# Altium integrated library TI Amplifiers and Linear Operational Amplifier Precision Amplifier Part Two.IntLib: 2300 symbols (part 6 of 81)
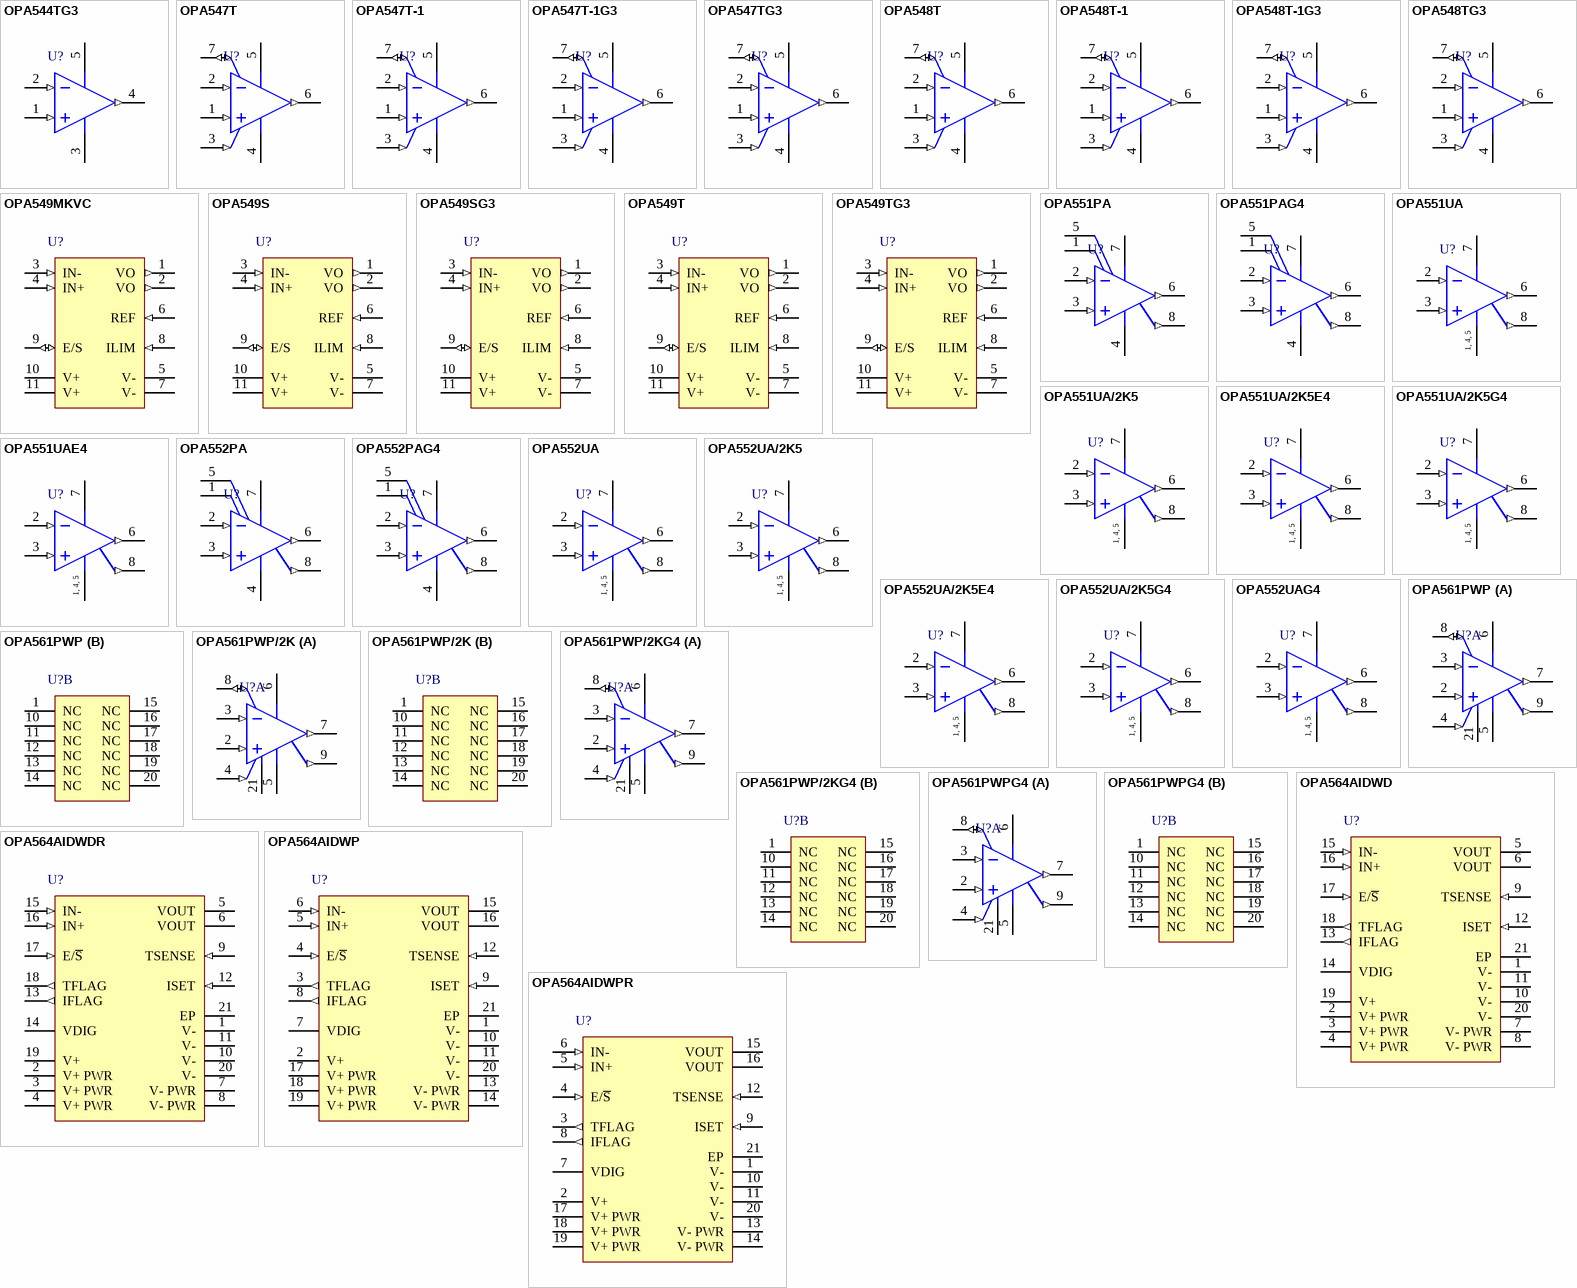
[diagram p141: symbols OPA544TG3 to OPA564AIDWPR]

## OPA552UA
designator U?
High-Voltage, High-Current Operational Amplifier, 8 to 60 V, -55 to 125 degC, 8-pin SOIC (D8), Green (RoHS & no Sb/Br); Manufacturer: Texas Instruments; PartNumber: OPA552UA; CMRR(Min)(dB): 92; GBW(Typ)(MHz): 12; IIB(Max)(pA): 100; Iq per channel(Max)(mA): 8.5; Number of Channels: 1; Offset Drift(Typ)(uV/C): 7; Packing: TUBE; Rating: Catalog; Slew Rate(Typ)(V/us): 24; Sub Family: High Output Current Amplifier (>=50mA), High Supply Voltage Amplifier (>=30V), Precision Amplifier; Total Supply Voltage(Max)(+5V is 5, +/-5V is 10): 60; Total Supply Voltage(Min)(+5V is 5, +/-5V is 10): 8; Vio (25C)(Max)(mV): 3; DatasheetVersion: SBOS100A; PackageVersion: 4040047-3/M, 06/2011; PackageReference: D8; PackageDescription: 8-Pin Plastic Small Outline, Body 4.9 x 3.9 mm, Pitch 1.27 mm; Supplier 1: Digi-Key; Supplier Part Number 1: OPA552UA-ND; Supplier 2: Newark; Supplier Part Number 2: 75C5072; Supplier 3: Mouser; Supplier Part Number 3: 595-OPA552UA; Eco-Plan: Green (RoHS & no Sb/Br); Mounting Technology: Surface Mount; Code_JEDEC: MS-012; ComponentLink1Description: Manufacturer URL; ComponentLink1URL: http://www.ti.com/; ComponentLink2Description: Datasheet; ComponentLink2URL: http://www.ti.com/lit/ds/symlink/opa552.pdf; ComponentLink3Description: Package Specification; ComponentLink3URL: http://www.ti.com/litv/pdf/msoi002j
footprint TI-D8_N (SOIC, 8-Leads, Body 4.9x3.9mm, Pitch 1.27mm, IPC Medium Density)
footprint TI-D8_L (SOIC, 8-Leads, Body 4.9x3.9mm, Pitch 1.27mm, IPC High Density)
footprint TI-D8_M (SOIC, 8-Leads, Body 4.9x3.9mm, Pitch 1.27mm, IPC Low Density)
pins: 1 V- (power), 2 IN- (in), 3 IN+ (in), 4 V- (power), 5 V- (power), 6 OUT (out), 7 V+ (power), 8 FLAG (out)
text: 1, 4, 5

## OPA552UA/2K5
designator U?
High-Voltage, High-Current Operational Amplifier, 8 to 60 V, -55 to 125 degC, 8-pin SOIC (D8), Green (RoHS & no Sb/Br); Manufacturer: Texas Instruments; PartNumber: OPA552UA/2K5; CMRR(Min)(dB): 92; GBW(Typ)(MHz): 12; IIB(Max)(pA): 100; Iq per channel(Max)(mA): 8.5; Number of Channels: 1; Offset Drift(Typ)(uV/C): 7; Packing: LARGE T&R; Rating: Catalog; Slew Rate(Typ)(V/us): 24; Sub Family: High Output Current Amplifier (>=50mA), High Supply Voltage Amplifier (>=30V), Precision Amplifier; Total Supply Voltage(Max)(+5V is 5, +/-5V is 10): 60; Total Supply Voltage(Min)(+5V is 5, +/-5V is 10): 8; Vio (25C)(Max)(mV): 3; DatasheetVersion: SBOS100A; PackageVersion: 4040047-3/M, 06/2011; PackageReference: D8; PackageDescription: 8-Pin Plastic Small Outline, Body 4.9 x 3.9 mm, Pitch 1.27 mm; Supplier 1: Digi-Key; Supplier Part Number 1: OPA552UA/2K5-ND; Supplier 2: Mouser; Supplier Part Number 2: 595-OPA552UA/2K5; Eco-Plan: Green (RoHS & no Sb/Br); Mounting Technology: Surface Mount; Code_JEDEC: MS-012; ComponentLink1Description: Manufacturer URL; ComponentLink1URL: http://www.ti.com/; ComponentLink2Description: Datasheet; ComponentLink2URL: http://www.ti.com/lit/ds/symlink/opa552.pdf; ComponentLink3Description: Package Specification; ComponentLink3URL: http://www.ti.com/litv/pdf/msoi002j
footprint TI-D8_N (SOIC, 8-Leads, Body 4.9x3.9mm, Pitch 1.27mm, IPC Medium Density)
footprint TI-D8_L (SOIC, 8-Leads, Body 4.9x3.9mm, Pitch 1.27mm, IPC High Density)
footprint TI-D8_M (SOIC, 8-Leads, Body 4.9x3.9mm, Pitch 1.27mm, IPC Low Density)
pins: 1 V- (power), 2 IN- (in), 3 IN+ (in), 4 V- (power), 5 V- (power), 6 OUT (out), 7 V+ (power), 8 FLAG (out)
text: 1, 4, 5

## OPA552UA/2K5E4
designator U?
High-Voltage, High-Current Operational Amplifier, 8 to 60 V, -55 to 125 degC, 8-pin SOIC (D8), Green (RoHS & no Sb/Br); Manufacturer: Texas Instruments; PartNumber: OPA552UA/2K5E4; CMRR(Min)(dB): 92; GBW(Typ)(MHz): 12; IIB(Max)(pA): 100; Iq per channel(Max)(mA): 8.5; Number of Channels: 1; Offset Drift(Typ)(uV/C): 7; Packing: LARGE T&R; Rating: Catalog; Slew Rate(Typ)(V/us): 24; Sub Family: High Output Current Amplifier (>=50mA), High Supply Voltage Amplifier (>=30V), Precision Amplifier; Total Supply Voltage(Max)(+5V is 5, +/-5V is 10): 60; Total Supply Voltage(Min)(+5V is 5, +/-5V is 10): 8; Vio (25C)(Max)(mV): 3; DatasheetVersion: SBOS100A; PackageVersion: 4040047-3/M, 06/2011; PackageReference: D8; PackageDescription: 8-Pin Plastic Small Outline, Body 4.9 x 3.9 mm, Pitch 1.27 mm; Supplier 1: Digi-Key; Supplier Part Number 1: OPA552UA/2K5E4-ND; Supplier 2: Mouser; Supplier Part Number 2: 595-OPA552UA/2K5E4; Eco-Plan: Green (RoHS & no Sb/Br); Mounting Technology: Surface Mount; Code_JEDEC: MS-012; ComponentLink1Description: Manufacturer URL; ComponentLink1URL: http://www.ti.com/; ComponentLink2Description: Datasheet; ComponentLink2URL: http://www.ti.com/lit/ds/symlink/opa552.pdf; ComponentLink3Description: Package Specification; ComponentLink3URL: http://www.ti.com/litv/pdf/msoi002j
footprint TI-D8_N (SOIC, 8-Leads, Body 4.9x3.9mm, Pitch 1.27mm, IPC Medium Density)
footprint TI-D8_L (SOIC, 8-Leads, Body 4.9x3.9mm, Pitch 1.27mm, IPC High Density)
footprint TI-D8_M (SOIC, 8-Leads, Body 4.9x3.9mm, Pitch 1.27mm, IPC Low Density)
pins: 1 V- (power), 2 IN- (in), 3 IN+ (in), 4 V- (power), 5 V- (power), 6 OUT (out), 7 V+ (power), 8 FLAG (out)
text: 1, 4, 5

## OPA552UA/2K5G4
designator U?
High-Voltage, High-Current Operational Amplifier, 8 to 60 V, -55 to 125 degC, 8-pin SOIC (D8), Green (RoHS & no Sb/Br); Manufacturer: Texas Instruments; PartNumber: OPA552UA/2K5G4; CMRR(Min)(dB): 92; GBW(Typ)(MHz): 12; IIB(Max)(pA): 100; Iq per channel(Max)(mA): 8.5; Number of Channels: 1; Offset Drift(Typ)(uV/C): 7; Packing: LARGE T&R; Rating: Catalog; Slew Rate(Typ)(V/us): 24; Sub Family: High Output Current Amplifier (>=50mA), High Supply Voltage Amplifier (>=30V), Precision Amplifier; Total Supply Voltage(Max)(+5V is 5, +/-5V is 10): 60; Total Supply Voltage(Min)(+5V is 5, +/-5V is 10): 8; Vio (25C)(Max)(mV): 3; DatasheetVersion: SBOS100A; PackageVersion: 4040047-3/M, 06/2011; PackageReference: D8; PackageDescription: 8-Pin Plastic Small Outline, Body 4.9 x 3.9 mm, Pitch 1.27 mm; Supplier 1: Digi-Key; Supplier Part Number 1: OPA552UA/2K5G4-ND; Supplier 2: Mouser; Supplier Part Number 2: 595-OPA552UA/2K5G4; Eco-Plan: Green (RoHS & no Sb/Br); Mounting Technology: Surface Mount; Code_JEDEC: MS-012; ComponentLink1Description: Manufacturer URL; ComponentLink1URL: http://www.ti.com/; ComponentLink2Description: Datasheet; ComponentLink2URL: http://www.ti.com/lit/ds/symlink/opa552.pdf; ComponentLink3Description: Package Specification; ComponentLink3URL: http://www.ti.com/litv/pdf/msoi002j
footprint TI-D8_N (SOIC, 8-Leads, Body 4.9x3.9mm, Pitch 1.27mm, IPC Medium Density)
footprint TI-D8_L (SOIC, 8-Leads, Body 4.9x3.9mm, Pitch 1.27mm, IPC High Density)
footprint TI-D8_M (SOIC, 8-Leads, Body 4.9x3.9mm, Pitch 1.27mm, IPC Low Density)
pins: 1 V- (power), 2 IN- (in), 3 IN+ (in), 4 V- (power), 5 V- (power), 6 OUT (out), 7 V+ (power), 8 FLAG (out)
text: 1, 4, 5

## OPA552UAG4
designator U?
High-Voltage, High-Current Operational Amplifier, 8 to 60 V, -55 to 125 degC, 8-pin SOIC (D8), Green (RoHS & no Sb/Br); Manufacturer: Texas Instruments; PartNumber: OPA552UAG4; CMRR(Min)(dB): 92; GBW(Typ)(MHz): 12; IIB(Max)(pA): 100; Iq per channel(Max)(mA): 8.5; Number of Channels: 1; Offset Drift(Typ)(uV/C): 7; Packing: TUBE; Rating: Catalog; Slew Rate(Typ)(V/us): 24; Sub Family: High Output Current Amplifier (>=50mA), High Supply Voltage Amplifier (>=30V), Precision Amplifier; Total Supply Voltage(Max)(+5V is 5, +/-5V is 10): 60; Total Supply Voltage(Min)(+5V is 5, +/-5V is 10): 8; Vio (25C)(Max)(mV): 3; DatasheetVersion: SBOS100A; PackageVersion: 4040047-3/M, 06/2011; PackageReference: D8; PackageDescription: 8-Pin Plastic Small Outline, Body 4.9 x 3.9 mm, Pitch 1.27 mm; Supplier 1: Digi-Key; Supplier Part Number 1: OPA552UAG4-ND; Supplier 2: Mouser; Supplier Part Number 2: 595-OPA552UAG4; Eco-Plan: Green (RoHS & no Sb/Br); Mounting Technology: Surface Mount; Code_JEDEC: MS-012; ComponentLink1Description: Manufacturer URL; ComponentLink1URL: http://www.ti.com/; ComponentLink2Description: Datasheet; ComponentLink2URL: http://www.ti.com/lit/ds/symlink/opa552.pdf; ComponentLink3Description: Package Specification; ComponentLink3URL: http://www.ti.com/litv/pdf/msoi002j
footprint TI-D8_N (SOIC, 8-Leads, Body 4.9x3.9mm, Pitch 1.27mm, IPC Medium Density)
footprint TI-D8_L (SOIC, 8-Leads, Body 4.9x3.9mm, Pitch 1.27mm, IPC High Density)
footprint TI-D8_M (SOIC, 8-Leads, Body 4.9x3.9mm, Pitch 1.27mm, IPC Low Density)
pins: 1 V- (power), 2 IN- (in), 3 IN+ (in), 4 V- (power), 5 V- (power), 6 OUT (out), 7 V+ (power), 8 FLAG (out)
text: 1, 4, 5

## OPA561PWP
designator U?
High Current Operational Amplifier, 7 to 16 V, -40 to 125 degC, 20-pin SOP (PWP20), Green (RoHS & no Sb/Br); Manufacturer: Texas Instruments; PartNumber: OPA561PWP; CMRR(Min)(dB): 70; GBW(Typ)(MHz): 17; IIB(Max)(pA): 100; Iq per channel(Max)(mA): 60; Number of Channels: 1; Offset Drift(Typ)(uV/C): 50; Packing: TUBE; Rating: Catalog; Sub Family: High Output Current Amplifier (>=50mA), Precision Amplifier; Total Supply Voltage(Max)(+5V is 5, +/-5V is 10): 16; Total Supply Voltage(Min)(+5V is 5, +/-5V is 10): 7; Vio (25C)(Max)(mV): 20; DatasheetVersion: SBOS206E; PackageVersion: 4073225-4/I, 05/2011; PackageReference: PWP20-3005X2005TP; PackageDescription: 20-Pin Plastic Small Outline, Body 4.4 x 6.5 mm, Pitch 0.65 mm; Supplier 1: Digi-Key; Supplier Part Number 1: OPA561PWP-ND; Supplier 2: Newark; Supplier Part Number 2: 75C5074; Supplier 3: Mouser; Supplier Part Number 3: 595-OPA561PWP; Eco-Plan: Green (RoHS & no Sb/Br); Slew Rate(Typ)(V/us): 50; Mounting Technology: Surface Mount; Code_JEDEC: MO-153; ComponentLink1Description: Manufacturer URL; ComponentLink1URL: http://www.ti.com/; ComponentLink2Description: Datasheet; ComponentLink2URL: http://www.ti.com/lit/ds/symlink/opa561.pdf; ComponentLink3Description: Package Specification; ComponentLink3URL: http://www.ti.com/lit/ml/mhts001g/mhts001g.pdf
footprint TI-PWP20-3005X2005TP_N (SOP, 20-Leads, Body 6.5x4.4mm, Pitch 0.65mm, Thermal Pad 3.4x2.4mm, IPC Medium Density)
footprint TI-PWP20-3005X2005TP_L (SOP, 20-Leads, Body 6.5x4.4mm, Pitch 0.65mm, Thermal Pad 3.4x2.4mm, IPC High Density)
footprint TI-PWP20-3005X2005TP_M (SOP, 20-Leads, Body 6.5x4.4mm, Pitch 0.65mm, Thermal Pad 3.4x2.4mm, IPC Low Density)
part A pins: 2 IN+ (in), 3 IN- (in), 4 ILIM (in), 5 V- (power), 6 V+ (power), 7 OUT (out), 8 E/S (io), 9 CLS (out), 21 EP (power)
part B pins: 1 NC, 10 NC, 11 NC, 12 NC, 13 NC, 14 NC, 15 NC, 16 NC, 17 NC, 18 NC, 19 NC, 20 NC

## OPA561PWP/2K
designator U?
High Current Operational Amplifier, 7 to 16 V, -40 to 125 degC, 20-pin SOP (PWP20), Green (RoHS & no Sb/Br); Manufacturer: Texas Instruments; PartNumber: OPA561PWP/2K; CMRR(Min)(dB): 70; GBW(Typ)(MHz): 17; IIB(Max)(pA): 100; Iq per channel(Max)(mA): 60; Number of Channels: 1; Offset Drift(Typ)(uV/C): 50; Packing: LARGE T&R; Rating: Catalog; Sub Family: High Output Current Amplifier (>=50mA), Precision Amplifier; Total Supply Voltage(Max)(+5V is 5, +/-5V is 10): 16; Total Supply Voltage(Min)(+5V is 5, +/-5V is 10): 7; Vio (25C)(Max)(mV): 20; DatasheetVersion: SBOS206E; PackageVersion: 4073225-4/I, 05/2011; PackageReference: PWP20-3005X2005TP; PackageDescription: 20-Pin Plastic Small Outline, Body 4.4 x 6.5 mm, Pitch 0.65 mm; Supplier 1: Digi-Key; Supplier Part Number 1: OPA561PWP/2K-ND; Supplier 2: Newark; Supplier Part Number 2: 75C5075; Supplier 3: Mouser; Supplier Part Number 3: 595-OPA561PWP/2K; Eco-Plan: Green (RoHS & no Sb/Br); Slew Rate(Typ)(V/us): 50; Mounting Technology: Surface Mount; Code_JEDEC: MO-153; ComponentLink1Description: Manufacturer URL; ComponentLink1URL: http://www.ti.com/; ComponentLink2Description: Datasheet; ComponentLink2URL: http://www.ti.com/lit/ds/symlink/opa561.pdf; ComponentLink3Description: Package Specification; ComponentLink3URL: http://www.ti.com/lit/ml/mhts001g/mhts001g.pdf
footprint TI-PWP20-3005X2005TP_N (SOP, 20-Leads, Body 6.5x4.4mm, Pitch 0.65mm, Thermal Pad 3.4x2.4mm, IPC Medium Density)
footprint TI-PWP20-3005X2005TP_L (SOP, 20-Leads, Body 6.5x4.4mm, Pitch 0.65mm, Thermal Pad 3.4x2.4mm, IPC High Density)
footprint TI-PWP20-3005X2005TP_M (SOP, 20-Leads, Body 6.5x4.4mm, Pitch 0.65mm, Thermal Pad 3.4x2.4mm, IPC Low Density)
part A pins: 2 IN+ (in), 3 IN- (in), 4 ILIM (in), 5 V- (power), 6 V+ (power), 7 OUT (out), 8 E/S (io), 9 CLS (out), 21 EP (power)
part B pins: 1 NC, 10 NC, 11 NC, 12 NC, 13 NC, 14 NC, 15 NC, 16 NC, 17 NC, 18 NC, 19 NC, 20 NC

## OPA561PWP/2KG4
designator U?
High Current Operational Amplifier, 7 to 16 V, -40 to 125 degC, 20-pin SOP (PWP20), Green (RoHS & no Sb/Br); Manufacturer: Texas Instruments; PartNumber: OPA561PWP/2KG4; CMRR(Min)(dB): 70; GBW(Typ)(MHz): 17; IIB(Max)(pA): 100; Iq per channel(Max)(mA): 60; Number of Channels: 1; Offset Drift(Typ)(uV/C): 50; Packing: LARGE T&R; Rating: Catalog; Sub Family: High Output Current Amplifier (>=50mA), Precision Amplifier; Total Supply Voltage(Max)(+5V is 5, +/-5V is 10): 16; Total Supply Voltage(Min)(+5V is 5, +/-5V is 10): 7; Vio (25C)(Max)(mV): 20; DatasheetVersion: SBOS206E; PackageVersion: 4073225-4/I, 05/2011; PackageReference: PWP20-3005X2005TP; PackageDescription: 20-Pin Plastic Small Outline, Body 4.4 x 6.5 mm, Pitch 0.65 mm; Supplier 1: Digi-Key; Supplier Part Number 1: OPA561PWP/2KG4-ND; Supplier 2: Mouser; Supplier Part Number 2: 595-OPA561PWP/2KG4; Eco-Plan: Green (RoHS & no Sb/Br); Slew Rate(Typ)(V/us): 50; Mounting Technology: Surface Mount; Code_JEDEC: MO-153; ComponentLink1Description: Manufacturer URL; ComponentLink1URL: http://www.ti.com/; ComponentLink2Description: Datasheet; ComponentLink2URL: http://www.ti.com/lit/ds/symlink/opa561.pdf; ComponentLink3Description: Package Specification; ComponentLink3URL: http://www.ti.com/lit/ml/mhts001g/mhts001g.pdf
footprint TI-PWP20-3005X2005TP_N (SOP, 20-Leads, Body 6.5x4.4mm, Pitch 0.65mm, Thermal Pad 3.4x2.4mm, IPC Medium Density)
footprint TI-PWP20-3005X2005TP_L (SOP, 20-Leads, Body 6.5x4.4mm, Pitch 0.65mm, Thermal Pad 3.4x2.4mm, IPC High Density)
footprint TI-PWP20-3005X2005TP_M (SOP, 20-Leads, Body 6.5x4.4mm, Pitch 0.65mm, Thermal Pad 3.4x2.4mm, IPC Low Density)
part A pins: 2 IN+ (in), 3 IN- (in), 4 ILIM (in), 5 V- (power), 6 V+ (power), 7 OUT (out), 8 E/S (io), 9 CLS (out), 21 EP (power)
part B pins: 1 NC, 10 NC, 11 NC, 12 NC, 13 NC, 14 NC, 15 NC, 16 NC, 17 NC, 18 NC, 19 NC, 20 NC

## OPA561PWPG4
designator U?
High Current Operational Amplifier, 7 to 16 V, -40 to 125 degC, 20-pin SOP (PWP20), Green (RoHS & no Sb/Br); Manufacturer: Texas Instruments; PartNumber: OPA561PWPG4; CMRR(Min)(dB): 70; GBW(Typ)(MHz): 17; IIB(Max)(pA): 100; Iq per channel(Max)(mA): 60; Number of Channels: 1; Offset Drift(Typ)(uV/C): 50; Packing: TUBE; Rating: Catalog; Sub Family: High Output Current Amplifier (>=50mA), Precision Amplifier; Total Supply Voltage(Max)(+5V is 5, +/-5V is 10): 16; Total Supply Voltage(Min)(+5V is 5, +/-5V is 10): 7; Vio (25C)(Max)(mV): 20; DatasheetVersion: SBOS206E; PackageVersion: 4073225-4/I, 05/2011; PackageReference: PWP20-3005X2005TP; PackageDescription: 20-Pin Plastic Small Outline, Body 4.4 x 6.5 mm, Pitch 0.65 mm; Supplier 1: Digi-Key; Supplier Part Number 1: OPA561PWPG4-ND; Supplier 2: Farnell; Supplier Part Number 2: 1234906; Supplier 3: Newark; Supplier Part Number 3: 13M2593; Supplier 4: Mouser; Supplier Part Number 4: 595-OPA561PWPG4; Eco-Plan: Green (RoHS & no Sb/Br); Slew Rate(Typ)(V/us): 50; Mounting Technology: Surface Mount; Code_JEDEC: MO-153; ComponentLink1Description: Manufacturer URL; ComponentLink1URL: http://www.ti.com/; ComponentLink2Description: Datasheet; ComponentLink2URL: http://www.ti.com/lit/ds/symlink/opa561.pdf; ComponentLink3Description: Package Specification; ComponentLink3URL: http://www.ti.com/lit/ml/mhts001g/mhts001g.pdf
footprint TI-PWP20-3005X2005TP_N (SOP, 20-Leads, Body 6.5x4.4mm, Pitch 0.65mm, Thermal Pad 3.4x2.4mm, IPC Medium Density)
footprint TI-PWP20-3005X2005TP_L (SOP, 20-Leads, Body 6.5x4.4mm, Pitch 0.65mm, Thermal Pad 3.4x2.4mm, IPC High Density)
footprint TI-PWP20-3005X2005TP_M (SOP, 20-Leads, Body 6.5x4.4mm, Pitch 0.65mm, Thermal Pad 3.4x2.4mm, IPC Low Density)
part A pins: 2 IN+ (in), 3 IN- (in), 4 ILIM (in), 5 V- (power), 6 V+ (power), 7 OUT (out), 8 E/S (io), 9 CLS (out), 21 EP (power)
part B pins: 1 NC, 10 NC, 11 NC, 12 NC, 13 NC, 14 NC, 15 NC, 16 NC, 17 NC, 18 NC, 19 NC, 20 NC

## OPA564AIDWD
designator U?
1.5 A, 17 MHz, Power Operational Amplifier, 7 to 24 V, -40 to 125 degC, 20-pin SOP (DWD20), Green (RoHS & no Sb/Br); Manufacturer: Texas Instruments; PartNumber: OPA564AIDWD; CMRR(Min)(dB): 70; GBW(Typ)(MHz): 17; IIB(Max)(pA): 100; Iq per channel(Max)(mA): 50; Number of Channels: 1; Offset Drift(Typ)(uV/C): 10; Packing: TUBE; Rating: Catalog; Slew Rate(Typ)(V/us): 40; Sub Family: High Output Current Amplifier (>=50mA), Precision Amplifier; Total Supply Voltage(Max)(+5V is 5, +/-5V is 10): 24; Total Supply Voltage(Min)(+5V is 5, +/-5V is 10): 7; Vio (25C)(Max)(mV): 20; DatasheetVersion: SBOS372E; PackageVersion: 4147576/D, 01/2009; PackageReference: DWD20; PackageDescription: 20-Pin PowerPAD(TM) Plastic Small-Outline ( DIE DOWN ), Body 12.825 x 7.52 mm, Pitch 1.27 mm; Supplier 1: Digi-Key; Supplier Part Number 1: OPA564AIDWD-ND; Supplier 2: Newark; Supplier Part Number 2: 55R4573; Supplier 3: Mouser; Supplier Part Number 3: 595-OPA564AIDWD; Eco-Plan: Green (RoHS & no Sb/Br); Mounting Technology: Surface Mount; ComponentLink1Description: Manufacturer URL; ComponentLink1URL: http://www.ti.com/; ComponentLink2Description: Datasheet; ComponentLink2URL: http://www.ti.com/lit/ds/symlink/opa564.pdf; ComponentLink3Description: Package Specification; ComponentLink3URL: http://www.ti.com/litv/pdf/mpds034c
footprint TI-DWD20-3770X3100TP_N (SOP, 20-Leads, Body 12.825x7.52mm, Pitch 1.27mm, Thermal Pad 4.62x3.56mm, IPC Medium Density)
footprint TI-DWD20-3770X3100TP_L (SOP, 20-Leads, Body 12.825x7.52mm, Pitch 1.27mm, Thermal Pad 4.62x3.56mm, IPC High Density)
footprint TI-DWD20-3770X3100TP_M (SOP, 20-Leads, Body 12.825x7.52mm, Pitch 1.27mm, Thermal Pad 4.62x3.56mm, IPC Low Density)
pins: 1 V- (power) "-Supply for Amplifier, PWR Out, and Metal PowerPAD", 2 V+ PWR (power) "+Supply for Power Output Stage", 3 V+ PWR (power) "+Supply for Power Output Stage", 4 V+ PWR (power) "+Supply for Power Output Stage", 5 VOUT (hiz) "Output Voltage; RO is high impedance when shut down", 6 VOUT (hiz) "Output Voltage; RO is high impedance when shut down", 7 V- PWR (power) "-Supply for Power Output Stage", 8 V- PWR (power) "-Supply for Power Output Stage", 9 TSENSE (in) "Temperature Sense Pin for use with TMP411", 10 V- (power) "-Supply for Amplifier, PWR Out, and Metal PowerPAD", 11 V- (power) "-Supply for Amplifier, PWR Out, and Metal PowerPAD", 12 ISET (in) "Current Limit Set", 13 IFLAG (out) "Current Limit Flag; Active High", 14 VDIG (power) "+Supply for Digital Flag and E/S\ (referenced to V-). Valid Range is (V-) + 3.0V =< VDIG =< (V-) + 5.5V.", 15 IN- (in) "Inverting Op Amp Input", 16 IN+ (in) "Noninverting Op Amp Input", 17 E/~{S} (in) "Enable/S\h\u\t\d\o\w\n\ Output Stage; take E/S\ low to shut down output", 18 TFLAG (out) "Thermal Over Temperature Flag; flag is high when alarmed and device has gone into thermal shutdown.", 19 V+ (power) "+Supply for Signal Amplifier", 20 V- (power) "-Supply for Amplifier, PWR Out, and Metal PowerPAD", 21 EP (power) "PowerPAD is internally connected to V-."

## OPA564AIDWDR
designator U?
1.5 A, 17 MHz, Power Operational Amplifier, 7 to 24 V, -40 to 125 degC, 20-pin SOP (DWD20), Green (RoHS & no Sb/Br); Manufacturer: Texas Instruments; PartNumber: OPA564AIDWDR; CMRR(Min)(dB): 70; GBW(Typ)(MHz): 17; IIB(Max)(pA): 100; Iq per channel(Max)(mA): 50; Number of Channels: 1; Offset Drift(Typ)(uV/C): 10; Packing: LARGE T&R; Rating: Catalog; Slew Rate(Typ)(V/us): 40; Sub Family: High Output Current Amplifier (>=50mA), Precision Amplifier; Total Supply Voltage(Max)(+5V is 5, +/-5V is 10): 24; Total Supply Voltage(Min)(+5V is 5, +/-5V is 10): 7; Vio (25C)(Max)(mV): 20; DatasheetVersion: SBOS372E; PackageVersion: 4147576/D, 01/2009; PackageReference: DWD20; PackageDescription: 20-Pin PowerPAD(TM) Plastic Small-Outline ( DIE DOWN ), Body 12.825 x 7.52 mm, Pitch 1.27 mm; Supplier 1: Digi-Key; Supplier Part Number 1: 296-25453-2-ND; Supplier 2: Digi-Key; Supplier Part Number 2: 296-25453-1-ND; Supplier 3: Digi-Key; Supplier Part Number 3: 296-25453-6-ND; Supplier 4: Newark; Supplier Part Number 4: 55R4574; Supplier 5: Mouser; Supplier Part Number 5: 595-OPA564AIDWDR; Eco-Plan: Green (RoHS & no Sb/Br); Mounting Technology: Surface Mount; ComponentLink1Description: Manufacturer URL; ComponentLink1URL: http://www.ti.com/; ComponentLink2Description: Datasheet; ComponentLink2URL: http://www.ti.com/lit/ds/symlink/opa564.pdf; ComponentLink3Description: Package Specification; ComponentLink3URL: http://www.ti.com/litv/pdf/mpds034c
footprint TI-DWD20-3770X3100TP_N (SOP, 20-Leads, Body 12.825x7.52mm, Pitch 1.27mm, Thermal Pad 4.62x3.56mm, IPC Medium Density)
footprint TI-DWD20-3770X3100TP_L (SOP, 20-Leads, Body 12.825x7.52mm, Pitch 1.27mm, Thermal Pad 4.62x3.56mm, IPC High Density)
footprint TI-DWD20-3770X3100TP_M (SOP, 20-Leads, Body 12.825x7.52mm, Pitch 1.27mm, Thermal Pad 4.62x3.56mm, IPC Low Density)
pins: 1 V- (power) "-Supply for Amplifier, PWR Out, and Metal PowerPAD", 2 V+ PWR (power) "+Supply for Power Output Stage", 3 V+ PWR (power) "+Supply for Power Output Stage", 4 V+ PWR (power) "+Supply for Power Output Stage", 5 VOUT (hiz) "Output Voltage; RO is high impedance when shut down", 6 VOUT (hiz) "Output Voltage; RO is high impedance when shut down", 7 V- PWR (power) "-Supply for Power Output Stage", 8 V- PWR (power) "-Supply for Power Output Stage", 9 TSENSE (in) "Temperature Sense Pin for use with TMP411", 10 V- (power) "-Supply for Amplifier, PWR Out, and Metal PowerPAD", 11 V- (power) "-Supply for Amplifier, PWR Out, and Metal PowerPAD", 12 ISET (in) "Current Limit Set", 13 IFLAG (out) "Current Limit Flag; Active High", 14 VDIG (power) "+Supply for Digital Flag and E/S\ (referenced to V-). Valid Range is (V-) + 3.0V =< VDIG =< (V-) + 5.5V.", 15 IN- (in) "Inverting Op Amp Input", 16 IN+ (in) "Noninverting Op Amp Input", 17 E/~{S} (in) "Enable/S\h\u\t\d\o\w\n\ Output Stage; take E/S\ low to shut down output", 18 TFLAG (out) "Thermal Over Temperature Flag; flag is high when alarmed and device has gone into thermal shutdown.", 19 V+ (power) "+Supply for Signal Amplifier", 20 V- (power) "-Supply for Amplifier, PWR Out, and Metal PowerPAD", 21 EP (power) "PowerPAD is internally connected to V-."

## OPA564AIDWP
designator U?
1.5 A, 17 MHz, Power Operational Amplifier, 7 to 24 V, -40 to 125 degC, 20-pin SOP (DWP20), Green (RoHS & no Sb/Br); Manufacturer: Texas Instruments; PartNumber: OPA564AIDWP; CMRR(Min)(dB): 70; GBW(Typ)(MHz): 17; IIB(Max)(pA): 100; Iq per channel(Max)(mA): 50; Number of Channels: 1; Offset Drift(Typ)(uV/C): 10; Packing: TUBE; Rating: Catalog; Slew Rate(Typ)(V/us): 40; Sub Family: High Output Current Amplifier (>=50mA), Precision Amplifier; Total Supply Voltage(Max)(+5V is 5, +/-5V is 10): 24; Total Supply Voltage(Min)(+5V is 5, +/-5V is 10): 7; Vio (25C)(Max)(mV): 20; DatasheetVersion: SBOS372E; PackageVersion: 4147575/C, 02/2005; PackageReference: DWP20-3905X3265TP; PackageDescription: 20-Pin PowerPAD(TM) Plastic Small-Outline Package, Body 12.825 x 7.52 mm, Pitch 1.27 mm; Supplier 1: Digi-Key; Supplier Part Number 1: 296-25592-5-ND; Supplier 2: Farnell; Supplier Part Number 2: 1815732; Supplier 3: Newark; Supplier Part Number 3: 23T1010; Supplier 4: Newark; Supplier Part Number 4: 55R4575; Supplier 5: Mouser; Supplier Part Number 5: 595-OPA564AIDWP; Eco-Plan: Green (RoHS & no Sb/Br); Mounting Technology: Surface Mount; ComponentLink1Description: Manufacturer URL; ComponentLink1URL: http://www.ti.com/; ComponentLink2Description: Datasheet; ComponentLink2URL: http://www.ti.com/lit/ds/symlink/opa564.pdf; ComponentLink3Description: Package Specification; ComponentLink3URL: http://www.ti.com/litv/pdf/mpds032b
footprint TI-DWP20-3905X3265TP_N (SOP, 20-Leads, Body 12.83x7.52mm, Pitch 1.27mm, Thermal Pad 4.32x3.81mm, IPC Medium Density)
footprint TI-DWP20-3905X3265TP_L (SOP, 20-Leads, Body 12.83x7.52mm, Pitch 1.27mm, Thermal Pad 4.32x3.81mm, IPC High Density)
footprint TI-DWP20-3905X3265TP_M (SOP, 20-Leads, Body 12.83x7.52mm, Pitch 1.27mm, Thermal Pad 4.32x3.81mm, IPC Low Density)
pins: 1 V- (power) "-Supply for Amplifier, PWR Out, and Metal PowerPAD", 2 V+ (power) "+Supply for Signal Amplifier", 3 TFLAG (out) "Thermal Over Temperature Flag; flag is high when alarmed and device has gone into thermal shutdown.", 4 E/~{S} (in) "Enable/S\h\u\t\d\o\w\n\ Output Stage; take E/S\ low to shut down output", 5 IN+ (in) "Noninverting Op Amp Input", 6 IN- (in) "Inverting Op Amp Input", 7 VDIG (power) "+Supply for Digital Flag and E/S\ (referenced to V-). Valid Range is (V-) + 3.0V = VDIG = (V-) + 5.5V.", 8 IFLAG (out) "Current Limit Flag; Active High", 9 ISET (in) "Current Limit Set", 10 V- (power) "-Supply for Amplifier, PWR Out, and Metal PowerPAD", 11 V- (power) "-Supply for Amplifier, PWR Out, and Metal PowerPAD", 12 TSENSE (in) "Temperature Sense Pin for use with TMP411", 13 V- PWR (power) "-Supply for Power Output Stage", 14 V- PWR (power) "-Supply for Power Output Stage", 15 VOUT (hiz) "Output Voltage; RO is high impedance when shut down", 16 VOUT (hiz) "Output Voltage; RO is high impedance when shut down", 17 V+ PWR (power) "+Supply for Power Output Stage", 18 V+ PWR (power) "+Supply for Power Output Stage", 19 V+ PWR (power) "+Supply for Power Output Stage", 20 V- (power) "-Supply for Amplifier, PWR Out, and Metal PowerPAD", 21 EP (power) "PowerPAD is internally connected to V-, Soldering the PowerPAD to the PCB is always required, even with applications that have low power dissipation."

## OPA564AIDWPR
designator U?
1.5 A, 17 MHz, Power Operational Amplifier, 7 to 24 V, -40 to 125 degC, 20-pin SOP (DWP20), Green (RoHS & no Sb/Br); Manufacturer: Texas Instruments; PartNumber: OPA564AIDWPR; CMRR(Min)(dB): 70; GBW(Typ)(MHz): 17; IIB(Max)(pA): 100; Iq per channel(Max)(mA): 50; Number of Channels: 1; Offset Drift(Typ)(uV/C): 10; Packing: LARGE T&R; Rating: Catalog; Slew Rate(Typ)(V/us): 40; Sub Family: High Output Current Amplifier (>=50mA), Precision Amplifier; Total Supply Voltage(Max)(+5V is 5, +/-5V is 10): 24; Total Supply Voltage(Min)(+5V is 5, +/-5V is 10): 7; Vio (25C)(Max)(mV): 20; DatasheetVersion: SBOS372E; PackageVersion: 4147575/C, 02/2005; PackageReference: DWP20-3905X3265TP; PackageDescription: 20-Pin PowerPAD(TM) Plastic Small-Outline Package, Body 12.825 x 7.52 mm, Pitch 1.27 mm; Supplier 1: Digi-Key; Supplier Part Number 1: 296-25454-2-ND; Supplier 2: Digi-Key; Supplier Part Number 2: 296-25454-1-ND; Supplier 3: Digi-Key; Supplier Part Number 3: 296-25454-6-ND; Supplier 4: Newark; Supplier Part Number 4: 55R4576; Supplier 5: Mouser; Supplier Part Number 5: 595-OPA564AIDWPR; Eco-Plan: Green (RoHS & no Sb/Br); Mounting Technology: Surface Mount; ComponentLink1Description: Manufacturer URL; ComponentLink1URL: http://www.ti.com/; ComponentLink2Description: Datasheet; ComponentLink2URL: http://www.ti.com/lit/ds/symlink/opa564.pdf; ComponentLink3Description: Package Specification; ComponentLink3URL: http://www.ti.com/litv/pdf/mpds032b
footprint TI-DWP20-3905X3265TP_N (SOP, 20-Leads, Body 12.83x7.52mm, Pitch 1.27mm, Thermal Pad 4.32x3.81mm, IPC Medium Density)
footprint TI-DWP20-3905X3265TP_L (SOP, 20-Leads, Body 12.83x7.52mm, Pitch 1.27mm, Thermal Pad 4.32x3.81mm, IPC High Density)
footprint TI-DWP20-3905X3265TP_M (SOP, 20-Leads, Body 12.83x7.52mm, Pitch 1.27mm, Thermal Pad 4.32x3.81mm, IPC Low Density)
pins: 1 V- (power) "-Supply for Amplifier, PWR Out, and Metal PowerPAD", 2 V+ (power) "+Supply for Signal Amplifier", 3 TFLAG (out) "Thermal Over Temperature Flag; flag is high when alarmed and device has gone into thermal shutdown.", 4 E/~{S} (in) "Enable/S\h\u\t\d\o\w\n\ Output Stage; take E/S\ low to shut down output", 5 IN+ (in) "Noninverting Op Amp Input", 6 IN- (in) "Inverting Op Amp Input", 7 VDIG (power) "+Supply for Digital Flag and E/S\ (referenced to V-). Valid Range is (V-) + 3.0V = VDIG = (V-) + 5.5V.", 8 IFLAG (out) "Current Limit Flag; Active High", 9 ISET (in) "Current Limit Set", 10 V- (power) "-Supply for Amplifier, PWR Out, and Metal PowerPAD", 11 V- (power) "-Supply for Amplifier, PWR Out, and Metal PowerPAD", 12 TSENSE (in) "Temperature Sense Pin for use with TMP411", 13 V- PWR (power) "-Supply for Power Output Stage", 14 V- PWR (power) "-Supply for Power Output Stage", 15 VOUT (hiz) "Output Voltage; RO is high impedance when shut down", 16 VOUT (hiz) "Output Voltage; RO is high impedance when shut down", 17 V+ PWR (power) "+Supply for Power Output Stage", 18 V+ PWR (power) "+Supply for Power Output Stage", 19 V+ PWR (power) "+Supply for Power Output Stage", 20 V- (power) "-Supply for Amplifier, PWR Out, and Metal PowerPAD", 21 EP (power) "PowerPAD is internally connected to V-, Soldering the PowerPAD to the PCB is always required, even with applications that have low power dissipation."

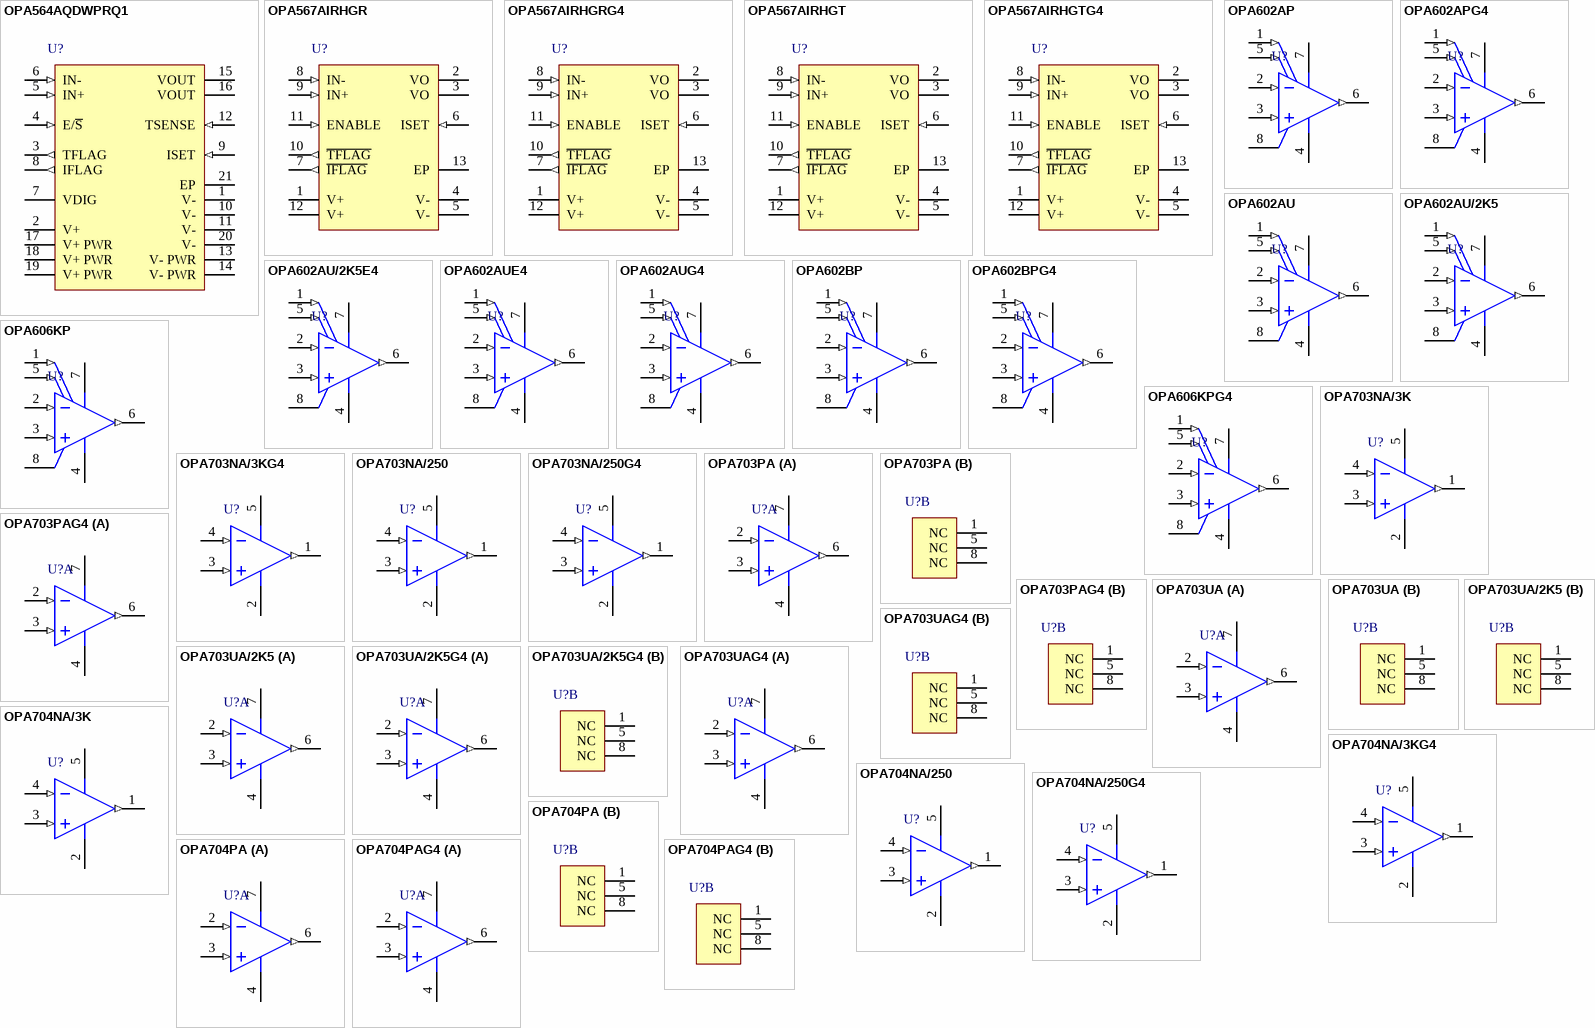
[diagram p9: symbols OPA564AQDWPRQ1 to OPA704PAG4]

## OPA564AQDWPRQ1
designator U?
Automotive Catalog 1.5 A, 17 MHz, Power Operational Amplifier, 7 to 24 V, -40 to 125 degC, 20-pin SOP (DWP20), Green (RoHS & no Sb/Br); Manufacturer: Texas Instruments; PartNumber: OPA564AQDWPRQ1; CMRR(Min)(dB): 70; GBW(Typ)(MHz): 17; IIB(Max)(pA): 100; Iq per channel(Max)(mA): 50; Number of Channels: 1; Offset Drift(Typ)(uV/C): 10; Packing: LARGE T&R; Slew Rate(Typ)(V/us): 40; Sub Family: High Output Current Amplifier (>=50mA), Precision Amplifier; Total Supply Voltage(Max)(+5V is 5, +/-5V is 10): 24; Total Supply Voltage(Min)(+5V is 5, +/-5V is 10): 7; Vio (25C)(Max)(mV): 20; DatasheetVersion: SBOS567; PackageVersion: 4147575/C, 02/2005; PackageReference: DWP20-3905X3265TP; PackageDescription: 20-Pin PowerPAD(TM) Plastic Small-Outline Package, Body 12.825 x 7.52 mm, Pitch 1.27 mm; Supplier 1: Digi-Key; Supplier Part Number 1: 296-29038-2-ND; Supplier 2: Digi-Key; Supplier Part Number 2: 296-29038-1-ND; Supplier 3: Digi-Key; Supplier Part Number 3: 296-29038-6-ND; Supplier 4: Mouser; Supplier Part Number 4: 595-OPA564AQDWPRQ1; Eco-Plan: Green (RoHS & no Sb/Br); Rating: Automotive; Mounting Technology: Surface Mount; ComponentLink1Description: Manufacturer URL; ComponentLink1URL: http://www.ti.com/; ComponentLink2Description: Datasheet; ComponentLink2URL: http://www.ti.com/lit/ds/symlink/opa564-q1.pdf; ComponentLink3Description: Package Specification; ComponentLink3URL: http://www.ti.com/litv/pdf/mpds032b
footprint TI-DWP20-3905X3265TP_N (SOP, 20-Leads, Body 12.83x7.52mm, Pitch 1.27mm, Thermal Pad 4.32x3.81mm, IPC Medium Density)
footprint TI-DWP20-3905X3265TP_L (SOP, 20-Leads, Body 12.83x7.52mm, Pitch 1.27mm, Thermal Pad 4.32x3.81mm, IPC High Density)
footprint TI-DWP20-3905X3265TP_M (SOP, 20-Leads, Body 12.83x7.52mm, Pitch 1.27mm, Thermal Pad 4.32x3.81mm, IPC Low Density)
pins: 1 V- (power) "-Supply for Amplifier, PWR Out, and Metal PowerPAD", 2 V+ (power) "+Supply for Signal Amplifier", 3 TFLAG (out) "Thermal Over Temperature Flag; flag is high when alarmed and device has gone into thermal shutdown.", 4 E/~{S} (in) "Enable/S\h\u\t\d\o\w\n\ Output Stage; take E/S\ low to shut down output", 5 IN+ (in) "Noninverting Op Amp Input", 6 IN- (in) "Inverting Op Amp Input", 7 VDIG (power) "+Supply for Digital Flag and E/S\ (referenced to V-). Valid Range is (V-) + 3.0V = VDIG = (V-) + 5.5V.", 8 IFLAG (out) "Current Limit Flag; Active High", 9 ISET (in) "Current Limit Set", 10 V- (power) "-Supply for Amplifier, PWR Out, and Metal PowerPAD", 11 V- (power) "-Supply for Amplifier, PWR Out, and Metal PowerPAD", 12 TSENSE (in) "Temperature Sense Pin for use with TMP411", 13 V- PWR (power) "-Supply for Power Output Stage", 14 V- PWR (power) "-Supply for Power Output Stage", 15 VOUT (hiz) "Output Voltage; RO is high impedance when shut down", 16 VOUT (hiz) "Output Voltage; RO is high impedance when shut down", 17 V+ PWR (power) "+Supply for Power Output Stage", 18 V+ PWR (power) "+Supply for Power Output Stage", 19 V+ PWR (power) "+Supply for Power Output Stage", 20 V- (power) "-Supply for Amplifier, PWR Out, and Metal PowerPAD", 21 EP (power) "PowerPAD is internally connected to V-, Soldering the PowerPAD to the PCB is always required, even with applications that have low power dissipation."

## OPA567AIRHGR
designator U?
Rail-to-Rail I/O, 2 A Power Amplifier, 2.7 to 5.5 V, -55 to 125 degC, 12-pin QFN (RHG12), Green (RoHS & no Sb/Br); Manufacturer: Texas Instruments; PartNumber: OPA567AIRHGR; CMRR(Min)(dB): 80; GBW(Typ)(MHz): 1.2; IIB(Max)(pA): 10; Iq per channel(Max)(mA): 6; Number of Channels: 1; Offset Drift(Typ)(uV/C): 1.3; Packing: LARGE T&R; Rating: Catalog; Sub Family: High Output Current Amplifier (>=50mA), Low Input Bias Current Amp (<=10pA), Low Supply Voltage Amplifier (<=2.7V), Precision Amplifier; Total Supply Voltage(Max)(+5V is 5, +/-5V is 10): 5.5; Total Supply Voltage(Min)(+5V is 5, +/-5V is 10): 2.7; Vio (25C)(Max)(mV): 2; DatasheetVersion: SBOS287A; PackageVersion: 4205052/E, 12/2010; PackageReference: RHG12-3120X3120TP; PackageDescription: 12-Pin Plastic Quad Flatpack No-Lead, Body 5 x 5 mm, Pitch 1 mm; Supplier 1: Digi-Key; Supplier Part Number 1: OPA567AIRHGR-ND; Supplier 2: Newark; Supplier Part Number 2: 63K6044; Supplier 3: Mouser; Supplier Part Number 3: 595-OPA567AIRHGR; Eco-Plan: Green (RoHS & no Sb/Br); Slew Rate(Typ)(V/us): 1.2; Mounting Technology: Surface Mount; Code_JEDEC: MO-220; ComponentLink1Description: Manufacturer URL; ComponentLink1URL: http://www.ti.com/; ComponentLink2Description: Datasheet; ComponentLink2URL: http://www.ti.com/lit/ds/symlink/opa567.pdf; ComponentLink3Description: Package Specification; ComponentLink3URL: http://www.ti.com/litv/pdf/mpqf142c
footprint TI-RHG12-3120X3120TP_V (QFN, 12-Leads, Body 5x5mm, Pitch 1mm, Thermal Pad 3.12 X 3.12mm)
pins: 1 V+ (power) "Positive Power-Supply Voltage", 2 VO (hiz) "Output", 3 VO (hiz) "Output", 4 V- (power) "Negative Power-Supply Voltage", 5 V- (power) "Negative Power-Supply Voltage", 6 ISET (in) "Current Limit Set Pin", 7 ~{IFLAG} (out) "Current Limit Flag-Indicates when part is in current limit (active LOW).", 8 IN- (in) "Inverting Input", 9 IN+ (in) "Noninverting Input", 10 ~{TFLAG} (out) "Thermal Flag-Indicates thermal stress (active LOW).", 11 ENABLE (in) "Enabled HIGH, shut down LOW.", 12 V+ (power) "Positive Power-Supply Voltage", 13 EP

## OPA567AIRHGRG4
designator U?
Rail-to-Rail I/O, 2 A Power Amplifier, 2.7 to 5.5 V, -55 to 125 degC, 12-pin QFN (RHG12), Green (RoHS & no Sb/Br); Manufacturer: Texas Instruments; PartNumber: OPA567AIRHGRG4; CMRR(Min)(dB): 80; GBW(Typ)(MHz): 1.2; IIB(Max)(pA): 10; Iq per channel(Max)(mA): 6; Number of Channels: 1; Offset Drift(Typ)(uV/C): 1.3; Packing: LARGE T&R; Rating: Catalog; Sub Family: High Output Current Amplifier (>=50mA), Low Input Bias Current Amp (<=10pA), Low Supply Voltage Amplifier (<=2.7V), Precision Amplifier; Total Supply Voltage(Max)(+5V is 5, +/-5V is 10): 5.5; Total Supply Voltage(Min)(+5V is 5, +/-5V is 10): 2.7; Vio (25C)(Max)(mV): 2; DatasheetVersion: SBOS287A; PackageVersion: 4205052/E, 12/2010; PackageReference: RHG12-3120X3120TP; PackageDescription: 12-Pin Plastic Quad Flatpack No-Lead, Body 5 x 5 mm, Pitch 1 mm; Supplier 1: Digi-Key; Supplier Part Number 1: OPA567AIRHGRG4-ND; Supplier 2: Newark; Supplier Part Number 2: 66K4014; Supplier 3: Mouser; Supplier Part Number 3: 595-OPA567AIRHGRG4; Eco-Plan: Green (RoHS & no Sb/Br); Slew Rate(Typ)(V/us): 1.2; Mounting Technology: Surface Mount; Code_JEDEC: MO-220; ComponentLink1Description: Manufacturer URL; ComponentLink1URL: http://www.ti.com/; ComponentLink2Description: Datasheet; ComponentLink2URL: http://www.ti.com/lit/ds/symlink/opa567.pdf; ComponentLink3Description: Package Specification; ComponentLink3URL: http://www.ti.com/litv/pdf/mpqf142c
footprint TI-RHG12-3120X3120TP_V (QFN, 12-Leads, Body 5x5mm, Pitch 1mm, Thermal Pad 3.12 X 3.12mm)
pins: 1 V+ (power) "Positive Power-Supply Voltage", 2 VO (hiz) "Output", 3 VO (hiz) "Output", 4 V- (power) "Negative Power-Supply Voltage", 5 V- (power) "Negative Power-Supply Voltage", 6 ISET (in) "Current Limit Set Pin", 7 ~{IFLAG} (out) "Current Limit Flag-Indicates when part is in current limit (active LOW).", 8 IN- (in) "Inverting Input", 9 IN+ (in) "Noninverting Input", 10 ~{TFLAG} (out) "Thermal Flag-Indicates thermal stress (active LOW).", 11 ENABLE (in) "Enabled HIGH, shut down LOW.", 12 V+ (power) "Positive Power-Supply Voltage", 13 EP

## OPA567AIRHGT
designator U?
Rail-to-Rail I/O, 2 A Power Amplifier, 2.7 to 5.5 V, -55 to 125 degC, 12-pin QFN (RHG12), Green (RoHS & no Sb/Br); Manufacturer: Texas Instruments; PartNumber: OPA567AIRHGT; CMRR(Min)(dB): 80; GBW(Typ)(MHz): 1.2; IIB(Max)(pA): 10; Iq per channel(Max)(mA): 6; Number of Channels: 1; Offset Drift(Typ)(uV/C): 1.3; Packing: SMALL T&R; Rating: Catalog; Sub Family: High Output Current Amplifier (>=50mA), Low Input Bias Current Amp (<=10pA), Low Supply Voltage Amplifier (<=2.7V), Precision Amplifier; Total Supply Voltage(Max)(+5V is 5, +/-5V is 10): 5.5; Total Supply Voltage(Min)(+5V is 5, +/-5V is 10): 2.7; Vio (25C)(Max)(mV): 2; DatasheetVersion: SBOS287A; PackageVersion: 4205052/E, 12/2010; PackageReference: RHG12-3120X3120TP; PackageDescription: 12-Pin Plastic Quad Flatpack No-Lead, Body 5 x 5 mm, Pitch 1 mm; Supplier 1: Digi-Key; Supplier Part Number 1: 296-18697-2-ND; Supplier 2: Digi-Key; Supplier Part Number 2: 296-18697-1-ND; Supplier 3: Digi-Key; Supplier Part Number 3: 296-18697-6-ND; Supplier 4: Farnell; Supplier Part Number 4: 1408243; Supplier 5: Farnell; Supplier Part Number 5: 1713526; Supplier 6: Newark; Supplier Part Number 6: 63K6045; Supplier 7: Mouser; Supplier Part Number 7: 595-OPA567AIRHGT; Eco-Plan: Green (RoHS & no Sb/Br); Slew Rate(Typ)(V/us): 1.2; Mounting Technology: Surface Mount; Code_JEDEC: MO-220; ComponentLink1Description: Manufacturer URL; ComponentLink1URL: http://www.ti.com/; ComponentLink2Description: Datasheet; ComponentLink2URL: http://www.ti.com/lit/ds/symlink/opa567.pdf; ComponentLink3Description: Package Specification; ComponentLink3URL: http://www.ti.com/litv/pdf/mpqf142c
footprint TI-RHG12-3120X3120TP_V (QFN, 12-Leads, Body 5x5mm, Pitch 1mm, Thermal Pad 3.12 X 3.12mm)
pins: 1 V+ (power) "Positive Power-Supply Voltage", 2 VO (hiz) "Output", 3 VO (hiz) "Output", 4 V- (power) "Negative Power-Supply Voltage", 5 V- (power) "Negative Power-Supply Voltage", 6 ISET (in) "Current Limit Set Pin", 7 ~{IFLAG} (out) "Current Limit Flag-Indicates when part is in current limit (active LOW).", 8 IN- (in) "Inverting Input", 9 IN+ (in) "Noninverting Input", 10 ~{TFLAG} (out) "Thermal Flag-Indicates thermal stress (active LOW).", 11 ENABLE (in) "Enabled HIGH, shut down LOW.", 12 V+ (power) "Positive Power-Supply Voltage", 13 EP

## OPA567AIRHGTG4
designator U?
Rail-to-Rail I/O, 2 A Power Amplifier, 2.7 to 5.5 V, -55 to 125 degC, 12-pin QFN (RHG12), Green (RoHS & no Sb/Br); Manufacturer: Texas Instruments; PartNumber: OPA567AIRHGTG4; CMRR(Min)(dB): 80; GBW(Typ)(MHz): 1.2; IIB(Max)(pA): 10; Iq per channel(Max)(mA): 6; Number of Channels: 1; Offset Drift(Typ)(uV/C): 1.3; Packing: SMALL T&R; Rating: Catalog; Sub Family: High Output Current Amplifier (>=50mA), Low Input Bias Current Amp (<=10pA), Low Supply Voltage Amplifier (<=2.7V), Precision Amplifier; Total Supply Voltage(Max)(+5V is 5, +/-5V is 10): 5.5; Total Supply Voltage(Min)(+5V is 5, +/-5V is 10): 2.7; Vio (25C)(Max)(mV): 2; DatasheetVersion: SBOS287A; PackageVersion: 4205052/E, 12/2010; PackageReference: RHG12-3120X3120TP; PackageDescription: 12-Pin Plastic Quad Flatpack No-Lead, Body 5 x 5 mm, Pitch 1 mm; Supplier 1: Digi-Key; Supplier Part Number 1: OPA567AIRHGTG4-ND; Supplier 2: Newark; Supplier Part Number 2: 66K4015; Supplier 3: Mouser; Supplier Part Number 3: 595-OPA567AIRHGTG4; Eco-Plan: Green (RoHS & no Sb/Br); Slew Rate(Typ)(V/us): 1.2; Mounting Technology: Surface Mount; Code_JEDEC: MO-220; ComponentLink1Description: Manufacturer URL; ComponentLink1URL: http://www.ti.com/; ComponentLink2Description: Datasheet; ComponentLink2URL: http://www.ti.com/lit/ds/symlink/opa567.pdf; ComponentLink3Description: Package Specification; ComponentLink3URL: http://www.ti.com/litv/pdf/mpqf142c
footprint TI-RHG12-3120X3120TP_V (QFN, 12-Leads, Body 5x5mm, Pitch 1mm, Thermal Pad 3.12 X 3.12mm)
pins: 1 V+ (power) "Positive Power-Supply Voltage", 2 VO (hiz) "Output", 3 VO (hiz) "Output", 4 V- (power) "Negative Power-Supply Voltage", 5 V- (power) "Negative Power-Supply Voltage", 6 ISET (in) "Current Limit Set Pin", 7 ~{IFLAG} (out) "Current Limit Flag-Indicates when part is in current limit (active LOW).", 8 IN- (in) "Inverting Input", 9 IN+ (in) "Noninverting Input", 10 ~{TFLAG} (out) "Thermal Flag-Indicates thermal stress (active LOW).", 11 ENABLE (in) "Enabled HIGH, shut down LOW.", 12 V+ (power) "Positive Power-Supply Voltage", 13 EP

## OPA602AP
designator U?
High-Speed Precision Difet(R) Operational Amplifier, 10 to 36 V, -25 to 85 degC, 8-pin DIP (P8), Green (RoHS & no Sb/Br); Manufacturer: Texas Instruments; PartNumber: OPA602AP; CMRR(Min)(dB): 75; GBW(Typ)(MHz): 6.5; IIB(Max)(pA): 10; Iq per channel(Max)(mA): 4; Number of Channels: 1; Offset Drift(Typ)(uV/C): 3; Packing: TUBE; Rating: Catalog; Slew Rate(Typ)(V/us): 35; Sub Family: High Output Current Amplifier (>=50mA), High Supply Voltage Amplifier (>=30V), Low Input Bias Current Amp (<=10pA), Precision Amplifier; Total Supply Voltage(Max)(+5V is 5, +/-5V is 10): 36; Vio (25C)(Max)(mV): 2; DatasheetVersion: SBOS155A; PackageVersion: 4040082/E, 04/2010; PackageReference: P8; PackageDescription: 8-Pin Plastic In-Line, Body 9.59 x 6.35 mm, Pitch 2.54 mm; Supplier 1: Digi-Key; Supplier Part Number 1: OPA602AP-ND; Supplier 2: Farnell; Supplier Part Number 2: 1648715; Supplier 3: Newark; Supplier Part Number 3: 01M8425; Supplier 4: Mouser; Supplier Part Number 4: 595-OPA602AP; Eco-Plan: Green (RoHS & no Sb/Br); Total Supply Voltage(Min)(+5V is 5, +/-5V is 10): 10; Mounting Technology: Through Hole; Code_JEDEC: MS-001; ComponentLink1Description: Manufacturer URL; ComponentLink1URL: http://www.ti.com/; ComponentLink2Description: Datasheet; ComponentLink2URL: http://www.ti.com/lit/ds/symlink/opa602.pdf; ComponentLink3Description: Package Specification; ComponentLink3URL: http://www.ti.com/litv/pdf/mpdi001b
footprint TI-P8 (DIP, 8-Leads, Body 9.59x6.35mm, Pitch 2.54mm)
pins: 1 OFFSET TRIM (in), 2 IN- (in), 3 IN+ (in), 4 VS- (power), 5 OFFSET TRIM (in), 6 OUT (out), 7 VS+ (power), 8 NC

## OPA602APG4
designator U?
High-Speed Precision Difet(R) Operational Amplifier, 10 to 36 V, -25 to 85 degC, 8-pin DIP (P8), Green (RoHS & no Sb/Br); Manufacturer: Texas Instruments; PartNumber: OPA602APG4; CMRR(Min)(dB): 75; GBW(Typ)(MHz): 6.5; IIB(Max)(pA): 10; Iq per channel(Max)(mA): 4; Number of Channels: 1; Offset Drift(Typ)(uV/C): 3; Packing: TUBE; Rating: Catalog; Slew Rate(Typ)(V/us): 35; Sub Family: High Output Current Amplifier (>=50mA), High Supply Voltage Amplifier (>=30V), Low Input Bias Current Amp (<=10pA), Precision Amplifier; Total Supply Voltage(Max)(+5V is 5, +/-5V is 10): 36; Vio (25C)(Max)(mV): 2; DatasheetVersion: SBOS155A; PackageVersion: 4040082/E, 04/2010; PackageReference: P8; PackageDescription: 8-Pin Plastic In-Line, Body 9.59 x 6.35 mm, Pitch 2.54 mm; Supplier 1: Digi-Key; Supplier Part Number 1: OPA602APG4-ND; Supplier 2: Newark; Supplier Part Number 2: 99K4096; Supplier 3: Mouser; Supplier Part Number 3: 595-OPA602APG4; Eco-Plan: Green (RoHS & no Sb/Br); Total Supply Voltage(Min)(+5V is 5, +/-5V is 10): 10; Mounting Technology: Through Hole; Code_JEDEC: MS-001; ComponentLink1Description: Manufacturer URL; ComponentLink1URL: http://www.ti.com/; ComponentLink2Description: Datasheet; ComponentLink2URL: http://www.ti.com/lit/ds/symlink/opa602.pdf; ComponentLink3Description: Package Specification; ComponentLink3URL: http://www.ti.com/litv/pdf/mpdi001b
footprint TI-P8 (DIP, 8-Leads, Body 9.59x6.35mm, Pitch 2.54mm)
pins: 1 OFFSET TRIM (in), 2 IN- (in), 3 IN+ (in), 4 VS- (power), 5 OFFSET TRIM (in), 6 OUT (out), 7 VS+ (power), 8 NC

## OPA602AU
designator U?
High-Speed Precision Difet(R) Operational Amplifier, 10 to 36 V, -25 to 85 degC, 8-pin SOIC (D8), Green (RoHS & no Sb/Br); Manufacturer: Texas Instruments; PartNumber: OPA602AU; CMRR(Min)(dB): 75; GBW(Typ)(MHz): 6.5; IIB(Max)(pA): 10; Iq per channel(Max)(mA): 4; Number of Channels: 1; Offset Drift(Typ)(uV/C): 3; Packing: TUBE; Rating: Catalog; Slew Rate(Typ)(V/us): 35; Sub Family: High Output Current Amplifier (>=50mA), High Supply Voltage Amplifier (>=30V), Low Input Bias Current Amp (<=10pA), Precision Amplifier; Total Supply Voltage(Max)(+5V is 5, +/-5V is 10): 36; DatasheetVersion: SBOS155A; PackageVersion: 4040047-3/M, 06/2011; PackageReference: D8; PackageDescription: 8-Pin Plastic Small Outline, Body 4.9 x 3.9 mm, Pitch 1.27 mm; Supplier 1: Digi-Key; Supplier Part Number 1: OPA602AU-ND; Supplier 2: Newark; Supplier Part Number 2: 80K6030; Supplier 3: Mouser; Supplier Part Number 3: 595-OPA602AU; Eco-Plan: Green (RoHS & no Sb/Br); Total Supply Voltage(Min)(+5V is 5, +/-5V is 10): 10; Vio (25C)(Max)(mV): 3; Mounting Technology: Surface Mount; Code_JEDEC: MS-012; ComponentLink1Description: Manufacturer URL; ComponentLink1URL: http://www.ti.com/; ComponentLink2Description: Datasheet; ComponentLink2URL: http://www.ti.com/lit/ds/symlink/opa602.pdf; ComponentLink3Description: Package Specification; ComponentLink3URL: http://www.ti.com/litv/pdf/msoi002j
footprint TI-D8_N (SOIC, 8-Leads, Body 4.9x3.9mm, Pitch 1.27mm, IPC Medium Density)
footprint TI-D8_L (SOIC, 8-Leads, Body 4.9x3.9mm, Pitch 1.27mm, IPC High Density)
footprint TI-D8_M (SOIC, 8-Leads, Body 4.9x3.9mm, Pitch 1.27mm, IPC Low Density)
pins: 1 OFFSET TRIM (in), 2 IN- (in), 3 IN+ (in), 4 VS- (power), 5 OFFSET TRIM (in), 6 OUT (out), 7 VS+ (power), 8 NC

## OPA602AU/2K5
designator U?
High-Speed Precision Difet(R) Operational Amplifier, 10 to 36 V, -25 to 85 degC, 8-pin SOIC (D8), Green (RoHS & no Sb/Br); Manufacturer: Texas Instruments; PartNumber: OPA602AU/2K5; CMRR(Min)(dB): 75; GBW(Typ)(MHz): 6.5; IIB(Max)(pA): 10; Iq per channel(Max)(mA): 4; Number of Channels: 1; Offset Drift(Typ)(uV/C): 3; Packing: LARGE T&R; Rating: Catalog; Slew Rate(Typ)(V/us): 35; Sub Family: High Output Current Amplifier (>=50mA), High Supply Voltage Amplifier (>=30V), Low Input Bias Current Amp (<=10pA), Precision Amplifier; Total Supply Voltage(Max)(+5V is 5, +/-5V is 10): 36; DatasheetVersion: SBOS155A; PackageVersion: 4040047-3/M, 06/2011; PackageReference: D8; PackageDescription: 8-Pin Plastic Small Outline, Body 4.9 x 3.9 mm, Pitch 1.27 mm; Supplier 1: Digi-Key; Supplier Part Number 1: OPA602AU/2K5-ND; Supplier 2: Mouser; Supplier Part Number 2: 595-OPA602AU/2K5; Eco-Plan: Green (RoHS & no Sb/Br); Total Supply Voltage(Min)(+5V is 5, +/-5V is 10): 10; Vio (25C)(Max)(mV): 3; Mounting Technology: Surface Mount; Code_JEDEC: MS-012; ComponentLink1Description: Manufacturer URL; ComponentLink1URL: http://www.ti.com/; ComponentLink2Description: Datasheet; ComponentLink2URL: http://www.ti.com/lit/ds/symlink/opa602.pdf; ComponentLink3Description: Package Specification; ComponentLink3URL: http://www.ti.com/litv/pdf/msoi002j
footprint TI-D8_N (SOIC, 8-Leads, Body 4.9x3.9mm, Pitch 1.27mm, IPC Medium Density)
footprint TI-D8_L (SOIC, 8-Leads, Body 4.9x3.9mm, Pitch 1.27mm, IPC High Density)
footprint TI-D8_M (SOIC, 8-Leads, Body 4.9x3.9mm, Pitch 1.27mm, IPC Low Density)
pins: 1 OFFSET TRIM (in), 2 IN- (in), 3 IN+ (in), 4 VS- (power), 5 OFFSET TRIM (in), 6 OUT (out), 7 VS+ (power), 8 NC

## OPA602AU/2K5E4
designator U?
High-Speed Precision Difet(R) Operational Amplifier, 10 to 36 V, -25 to 85 degC, 8-pin SOIC (D8), Green (RoHS & no Sb/Br); Manufacturer: Texas Instruments; PartNumber: OPA602AU/2K5E4; CMRR(Min)(dB): 75; GBW(Typ)(MHz): 6.5; IIB(Max)(pA): 10; Iq per channel(Max)(mA): 4; Number of Channels: 1; Offset Drift(Typ)(uV/C): 3; Packing: LARGE T&R; Rating: Catalog; Slew Rate(Typ)(V/us): 35; Sub Family: High Output Current Amplifier (>=50mA), High Supply Voltage Amplifier (>=30V), Low Input Bias Current Amp (<=10pA), Precision Amplifier; Total Supply Voltage(Max)(+5V is 5, +/-5V is 10): 36; DatasheetVersion: SBOS155A; PackageVersion: 4040047-3/M, 06/2011; PackageReference: D8; PackageDescription: 8-Pin Plastic Small Outline, Body 4.9 x 3.9 mm, Pitch 1.27 mm; Supplier 1: Digi-Key; Supplier Part Number 1: OPA602AU/2K5E4-ND; Supplier 2: Newark; Supplier Part Number 2: 67K8222; Supplier 3: Mouser; Supplier Part Number 3: 595-OPA602AU/2K5E4; Eco-Plan: Green (RoHS & no Sb/Br); Total Supply Voltage(Min)(+5V is 5, +/-5V is 10): 10; Vio (25C)(Max)(mV): 3; Mounting Technology: Surface Mount; Code_JEDEC: MS-012; ComponentLink1Description: Manufacturer URL; ComponentLink1URL: http://www.ti.com/; ComponentLink2Description: Datasheet; ComponentLink2URL: http://www.ti.com/lit/ds/symlink/opa602.pdf; ComponentLink3Description: Package Specification; ComponentLink3URL: http://www.ti.com/litv/pdf/msoi002j
footprint TI-D8_N (SOIC, 8-Leads, Body 4.9x3.9mm, Pitch 1.27mm, IPC Medium Density)
footprint TI-D8_L (SOIC, 8-Leads, Body 4.9x3.9mm, Pitch 1.27mm, IPC High Density)
footprint TI-D8_M (SOIC, 8-Leads, Body 4.9x3.9mm, Pitch 1.27mm, IPC Low Density)
pins: 1 OFFSET TRIM (in), 2 IN- (in), 3 IN+ (in), 4 VS- (power), 5 OFFSET TRIM (in), 6 OUT (out), 7 VS+ (power), 8 NC